# Altium footprint library IC_Digital.PcbLib: 5 footprints
Each footprint in its own frame and in the unit in brackets; x right, y up, seen from the top. Pads: shape width x height; smd on the part's side, far side on the other; paste and mask are expansions set on the pad; w line width, h text height; cw(c..) or ccw(c..) is an arc to the next point about the centre after c.
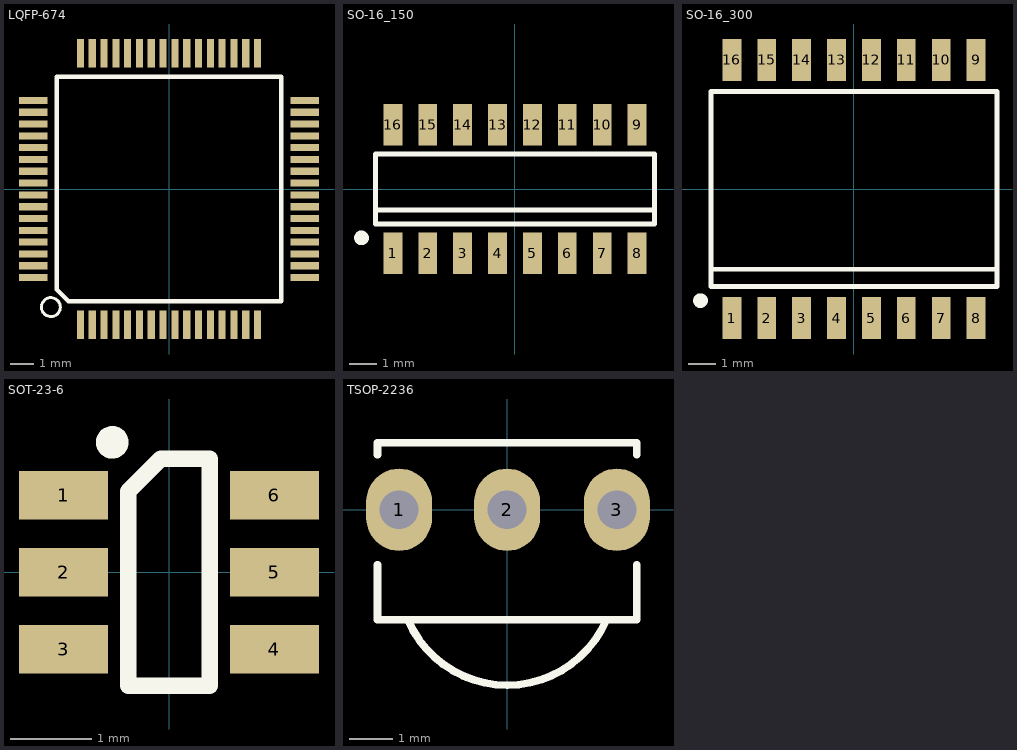
[diagram p0: the footprints below, top view; thin cyan lines are the x and y axes]

## LQFP-674 [mm] "LQFP64 – 10 x 10 mm 64 pin low-profile quad flat package"
pads (64):
  rect 0.3x1.2 smd mask+0.05: 1(-3.75,-5.75) 2(-3.25,-5.75) 3(-2.75,-5.75) 4(-2.25,-5.75) 5(-1.75,-5.75) 6(-1.25,-5.75) 7(-0.75,-5.75) 8(-0.25,-5.75) 9(0.25,-5.75) 10(0.75,-5.75) 11(1.25,-5.75) 12(1.75,-5.75) 13(2.25,-5.75) 14(2.75,-5.75) 15(3.25,-5.75) 16(3.75,-5.75) 33(3.75,5.75) 34(3.25,5.75) 35(2.75,5.75) 36(2.25,5.75) 37(1.75,5.75) 38(1.25,5.75) 39(0.75,5.75) 40(0.25,5.75) 41(-0.25,5.75) 42(-0.75,5.75) 43(-1.25,5.75) 44(-1.75,5.75) 45(-2.25,5.75) 46(-2.75,5.75) 47(-3.25,5.75) 48(-3.75,5.75)
  rect 1.2x0.3 smd mask+0.05: 17(5.75,-3.75) 18(5.75,-3.25) 19(5.75,-2.75) 20(5.75,-2.25) 21(5.75,-1.75) 22(5.75,-1.25) 23(5.75,-0.75) 24(5.75,-0.25) 25(5.75,0.25) 26(5.75,0.75) 27(5.75,1.25) 28(5.75,1.75) 29(5.75,2.25) 30(5.75,2.75) 31(5.75,3.25) 32(5.75,3.75) 49(-5.75,3.75) 50(-5.75,3.25) 51(-5.75,2.75) 52(-5.75,2.25) 53(-5.75,1.75) 54(-5.75,1.25) 55(-5.75,0.75) 56(-5.75,0.25) 57(-5.75,-0.25) 58(-5.75,-0.75) 59(-5.75,-1.25) 60(-5.75,-1.75) 61(-5.75,-2.25) 62(-5.75,-2.75) 63(-5.75,-3.25) 64(-5.75,-3.75)
Top Overlay:
  circle w0.127: c-5,-5 r0.4
  lines w0.178: -4.75,-4.25 -4.75,4.75 4.75,4.75 4.75,-4.75 -4.25,-4.75 -4.75,-4.25
3D body "STM32Fxxx -LQFP64 10mm x 10mm.STEP": height 1.6, standoff 0.01, extent -5.999,-5.999 5.999,5.999

## SO-16_150 [mil] "SO-16, 150mil wide"
height 150
pads (16):
  rect 27x60 smd mask+1.97: 1(-175,-92) 2(-125,-92) 3(-75,-92) 4(-25,-92) 5(25,-92) 6(75,-92) 7(125,-92) 8(175,-92) 9(175,92) 10(125,92) 11(75,92) 12(25,92) 13(-25,92) 14(-75,92) 15(-125,92) 16(-175,92)
Top Overlay:
  circle w11: c-220,-70 r5
  lines w7: -200,-30 200,-30 ; -200,-50 200,-50 200,50 -200,50 -200,-50
3D body "SOIC-16.STEP": height 55.12, standoff 0, extent -194.88,-118.1 194.88,118.11

## SO-16_300 [mil] "SO-16, 300mils wide"
height 150
pads (16):
  rect 27x60 smd mask+1.97: 1(-175,-185) 2(-125,-185) 3(-75,-185) 4(-25,-185) 5(25,-185) 6(75,-185) 7(125,-185) 8(175,-185) 9(175,185) 10(125,185) 11(75,185) 12(25,185) 13(-25,185) 14(-75,185) 15(-125,185) 16(-175,185)
Top Overlay:
  circle w11: c-220,-160 r5
  lines w7: -205,-115 205,-115 ; -205,-140 205,-140 205,140 -205,140 -205,-140
3D body "SOIC-16-300.STEP": height 101.26, standoff -1.1, extent -206.69,-208.66 206.69,208.66

## SOT-23-6 [mm] "Plastic Small-Outline Package 6pin"
height 2.032
pads (6):
  rect 1.1x0.6 smd mask+0.05: 1(-1.3,0.95) 2(-1.3,0) 3(-1.3,-0.95) 4(1.3,-0.95) 5(1.3,0) 6(1.3,0.95)
Top Overlay:
  circle w0.203: c-0.7,1.6 r0.1
  lines w0.203: -0.5,-1.4 0.5,-1.4 0.5,1.4 -0.1,1.4 -0.5,1 -0.5,-1.4
3D body "SOT23-6.STEP": height 1.3, standoff -0.05, extent -1.399,-1.452 1.401,1.448

## TSOP-2236 [mm] "IR Receiver Modules for Remote Control"
height 8
pads (3):
  oval 1.524x1.905 hole 0.9: 1(-2.5,0) 2(0,0) 3(2.54,0)
Top Overlay:
  lines w0.178: -3,-1.27 -3,-2.55 3,-2.55 3,-1.27 ; -3,1.27 -3,1.55 3,1.55 3,1.27 ; -2.297,-2.55 ccw(c0,-1.562) 2.297,-2.55
3D body "TSOP-4836_short.STEP": height 10.38, standoff -3.57, extent -3,-4.246 3,1.554